# EAGLE library part BARCODE_ENGINE_CONN (library SparkFun-Connectors)
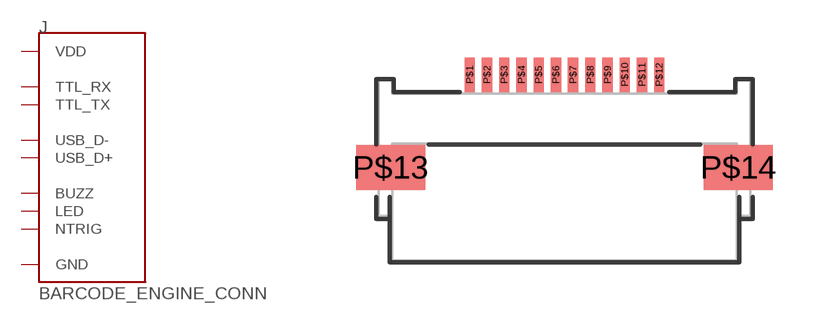
[diagram p69: symbol with the pads of CONN_FPC_BOTTOM_12POS_.5MM_R/A; footprint CONN_FPC_BOTTOM_12POS_.5MM_R/A]

Designator prefix J

## BARCODE_ENGINE_CONN  [CONN_FPC_BOTTOM_12POS_.5MM_R/A]
P$1  NTRIG  in
P$3  LED  in
P$4  BUZZ  out
P$6  USB_D+
P$7  USB_D-
P$8  TTL_TX  out
P$9  TTL_RX  in
P$10  GND  pwr
P$11  VDD  pwr
P$13  GND  pwr
P$14  GND  pwr

## Footprint CONN_FPC_BOTTOM_12POS_.5MM_R/A (pad centres in mm)
smd 0.3 x 1: P$1 -2.75,0; P$2 -2.25,0; P$3 -1.75,0; P$4 -1.25,0; P$5 -0.75,0; P$6 -0.25,0; P$7 0.25,0; P$8 0.75,0; P$9 1.25,0; P$10 1.75,0; P$11 2.25,0; P$12 2.75,0
smd 2 x 1.3: P$13 -5.05,-2.7; P$14 5.05,-2.7